# EAGLE library part KRE-6P (library kre)
KRE Conector 6P
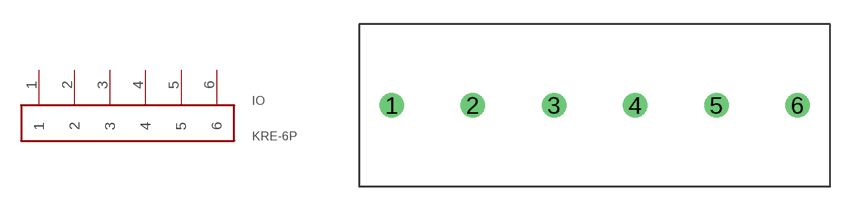
[diagram p2: symbol with the pads of KRE-6P; footprint KRE-6P]

Designator prefix IO

## KRE-6P  [KRE-6P]
1  1
2  2
3  3
4  4
5  5
6  6

## Footprint KRE-6P (pad centres in mm)
drill 1: 1 -12.7,0; 2 -7.7,0; 3 -2.7,0; 4 2.3,0; 5 7.3,0; 6 12.3,0